# EAGLE library part PCA9516 (library philips_I2C_repeaters-hubs-expanders)
5-channel I2C hub The PCA9516 BiCMOS integrated circuit is a five way hub repeater, which enables I2C and similar bus systems to be expanded with only one repeater delay and no functional degradation of system performance. The PCA9516 BiCMOS integrated circuit contains five bi-directional, open drain buffers specifically designed to support the standard low-level-contention arbitration of the I2C-bus. Except during arbitration or clock stretching, the PCA9516 acts like five pairs of non-inverting, open drain buffers, one for SDA and one for SCL.
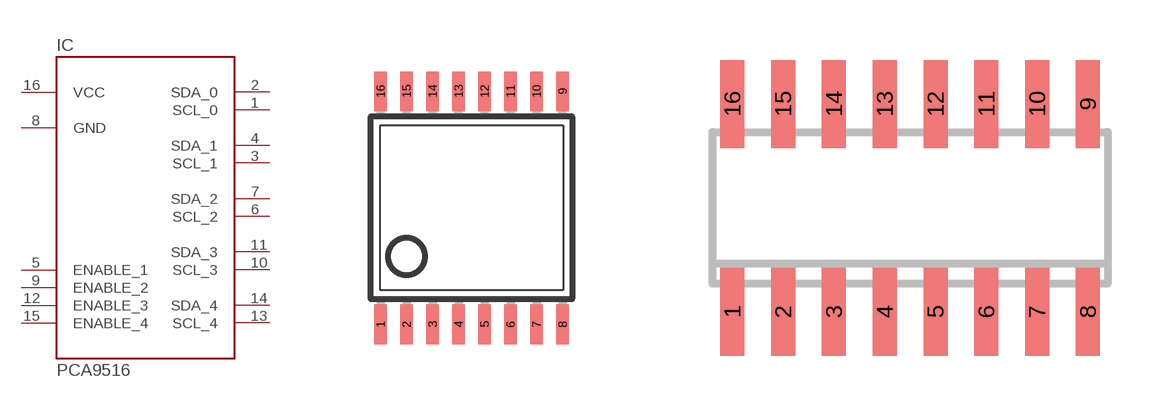
[diagram p3: symbol with the pads of TSSOP16; footprints TSSOP16, SO16]

Designator prefix IC

## PCA9516PW-T  [TSSOP16]
1  SCL_0
2  SDA_0
3  SCL_1
4  SDA_1
5  ENABLE_1  in
6  SCL_2
7  SDA_2
8  GND  pwr
9  ENABLE_2  in
10  SCL_3
11  SDA_3
12  ENABLE_3  in
13  SCL_4
14  SDA_4
15  ENABLE_4  in
16  VCC  pwr

## PCA9516D-T  [SO16]
Pads as for TSSOP16

## Footprint TSSOP16 (pad centres in mm)
Thin Shrink Small Outline Plastic 16 MAX3223-MAX3243.pdf
smd 0.305 x 0.991: 1 -2.275,-2.918; 2 -1.625,-2.918; 3 -0.975,-2.918; 4 -0.325,-2.918; 5 0.325,-2.918; 6 0.975,-2.918; 7 1.625,-2.918; 8 2.275,-2.918; 9 2.275,2.918; 10 1.625,2.918; 11 0.975,2.918; 12 0.325,2.918; 13 -0.325,2.918; 14 -0.975,2.918; 15 -1.625,2.918; 16 -2.275,2.918

## Footprint SO16 (pad centres in mm)
SMALL OUTLINE INTEGRATED CIRCUIT body 3.9 mm/JEDEC MS-012AC
smd 0.6 x 2.2: 1 -4.445,-2.6; 2 -3.175,-2.6; 3 -1.905,-2.6; 4 -0.635,-2.6; 5 0.635,-2.6; 6 1.905,-2.6; 7 3.175,-2.6; 8 4.445,-2.6; 9 4.445,2.6; 10 3.175,2.6; 11 1.905,2.6; 12 0.635,2.6; 13 -0.635,2.6; 14 -1.905,2.6; 15 -3.175,2.6; 16 -4.445,2.6